# Altium integrated library ADUM1411BRWZ.IntLib: 1 symbol
Pins are listed as number, name and electrical type; pins without a type are passive.

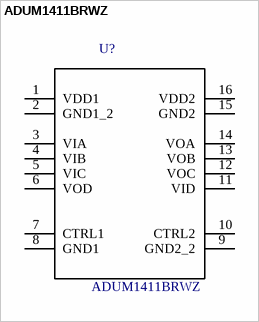
[diagram p0: symbol ADUM1411BRWZ]

## ADUM1411BRWZ
designator U?
Digital Isolator CMOS 4-CH 10Mbps 16-Pin SOIC W Tube; MF: Analog Devices; Package: SOIC-16 Analog Devices; Availability: Unavailable; MP: ADUM1411BRWZ; SnapEDA_Link: https://www.snapeda.com/parts/ADUM1411BRWZ/Analog%20Devices%20Inc./view-part/?ref=snap; Price: None; Value: *
footprint *SOIC127P1032X265-16N
pins: 1 VDD1 (power), 2 GND1_2, 3 VIA, 4 VIB, 5 VIC, 6 VOD, 7 CTRL1, 8 GND1, 9 GND2_2, 10 CTRL2, 11 VID, 12 VOC, 13 VOB, 14 VOA, 15 GND2, 16 VDD2 (power)